# Altium footprint library Footprint_Modules.PcbLib: 3 footprints
Each footprint in its own frame and in the unit in brackets; x right, y up, seen from the top. Pads: shape width x height; smd on the part's side, far side on the other; paste and mask are expansions set on the pad; w line width, h text height; cw(c..) or ccw(c..) is an arc to the next point about the centre after c.
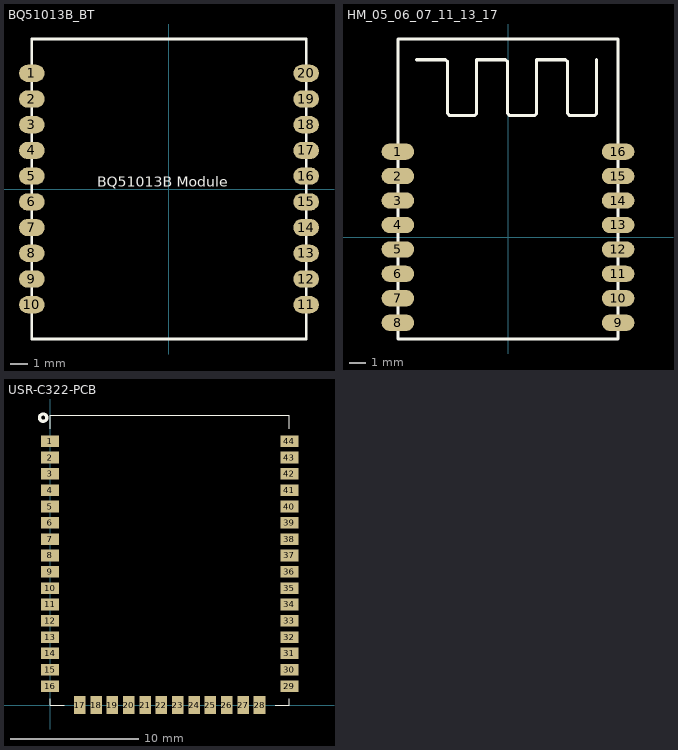
[diagram p0: the footprints below, top view; thin cyan lines are the x and y axes]

## BQ51013B_BT [mm] "Wireless Receiver Designed by Burning"
pads (20):
  oval 1.5x1 smd: 1(-8,6.75) 2(-8,5.25) 3(-8,3.75) 4(-8,2.25) 5(-8,0.75) 6(-8,-0.75) 7(-8,-2.25) 8(-8,-3.75) 9(-8,-5.25) 10(-8,-6.75) 11(8,-6.75) 12(8,-5.25) 13(8,-3.75) 14(8,-2.25) 15(8,-0.75) 16(8,0.75) 17(8,2.25) 18(8,3.75) 19(8,5.25) 20(8,6.75)
Top Overlay:
  lines w0.15: -8,-8.75 -8,8.75 8,8.75 8,-8.75 -8,-8.75
  text "BQ51013B Module" at -4.191,0.127 h0.6

## HM_05_06_07_11_13_17 [mm]
pads (16):
  oval 2x1 smd: 1(-6.756,5.25) 2(-6.756,3.75) 3(-6.756,2.25) 4(-6.756,0.75) 5(-6.756,-0.75) 6(-6.756,-2.25) 7(-6.756,-3.75) 8(-6.756,-5.25) 9(6.756,-5.25) 10(6.756,-3.75) 11(6.756,-2.25) 12(6.756,-0.75) 13(6.756,0.75) 14(6.756,2.25) 15(6.756,3.75) 16(6.756,5.25)
Top Overlay:
  lines w0.2: -5.613,10.895 -3.835,10.895 -3.708,10.768 -3.708,7.593 -3.581,7.466 -2.057,7.466 -1.93,7.593 -1.93,10.895 -0.152,10.895 -0.025,10.768 -0.025,7.593 0.102,7.466 1.626,7.466 1.753,7.593 1.753,10.895 3.531,10.895 3.658,10.768 3.658,7.593 3.785,7.466 5.309,7.466 5.436,7.593 5.436,10.895 ; -6.756,-6.25 -6.756,7.085 -6.756,12.165 6.756,12.165 6.756,7.085 6.757,-6.25 -6.756,-6.25

## USR-C322-PCB [mm] "USR-C322·â×°"
pads (44):
  rect 1.4x0.9 smd: 1(0,20.52) 2(0,19.25) 3(0,17.98) 4(0,16.71) 5(0,15.44) 6(0,14.17) 7(0,12.9) 8(0,11.63) 9(0,10.36) 10(0,9.09) 11(0,7.82) 12(0,6.55) 13(0,5.28) 14(0,4.01) 15(0,2.74) 16(0,1.47) 29(18.62,1.47) 30(18.62,2.74) 31(18.62,4.01) 32(18.62,5.28) 33(18.62,6.55) 34(18.62,7.82) 35(18.62,9.09) 36(18.62,10.36) 37(18.62,11.63) 38(18.62,12.9) 39(18.62,14.17) 40(18.62,15.44) 41(18.62,16.71) 42(18.62,17.98) 43(18.62,19.25) 44(18.62,20.52)
  rect 0.9x1.4 smd: 17(2.31,0) 18(3.58,0) 19(4.85,0) 20(6.12,0) 21(7.39,0) 22(8.66,0) 23(9.93,0) 24(11.2,0) 25(12.47,0) 26(13.74,0) 27(15.02,0) 28(16.29,0)
Top Overlay:
  circle w0.254: c-0.538,22.352 r0.284
  lines w0.07: 0,0.5 0,0 1.12,0 ; 0,21.5 0,22.55 18.62,22.55 18.62,21.5 ; 17.5,0 18.62,0 18.62,0.5